# Altium footprint library PCB - POTENTIOMETER - BOURNS TRIMPOT 3224W.PCBLIB: 1 footprints
Each footprint in its own frame and in the unit in brackets; x right, y up, seen from the top. Pads: shape width x height; smd on the part's side, far side on the other; paste and mask are expansions set on the pad; w line width, h text height; cw(c..) or ccw(c..) is an arc to the next point about the centre after c.
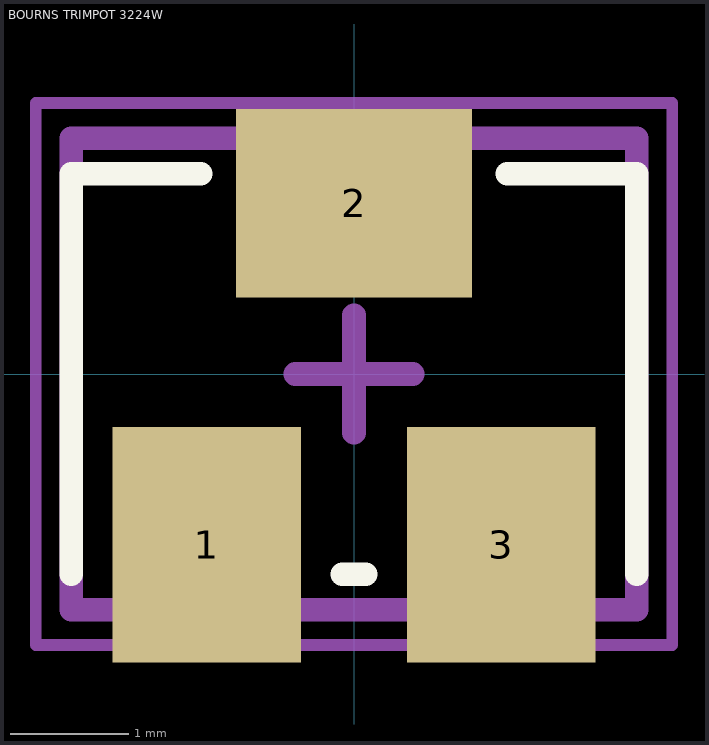
[diagram p0: the footprint, top view; thin cyan lines are the x and y axes]

## BOURNS TRIMPOT 3224W [mm] "3224 - 4 mm SMD Trimpot® Trimming Potentiometer"
height 5.1
pads (3):
  rect 1.6x2 smd: 1(-1.25,-1.45) 3(1.25,-1.45)
  rect 2x1.6 smd: 2(0,1.45)
Top Overlay:
  lines w0.2: -2.4,-1.7 -2.4,1.7 -1.3,1.7 ; -0.1,-1.7 0.1,-1.7 ; 1.3,1.7 2.4,1.7 2.4,-1.7
Top Assembly:
  lines w0.2: -0.5,0 0.5,0 ; 0,-0.5 0,0.5 ; -2.4,-2 -2.4,2 2.4,2 2.4,-2 -2.4,-2
Top Courtyard (Mech15):
  lines w0.1: -2.7,-2.3 2.7,-2.3 2.7,2.3 -2.7,2.3 -2.7,-2.3
3D body "Bourns 3224W.step": height 5.28, standoff 0, extent -2.413,-1.99 2.413,1.965